# EAGLE library part 7SEG-1 (library IBe-9102-lib)
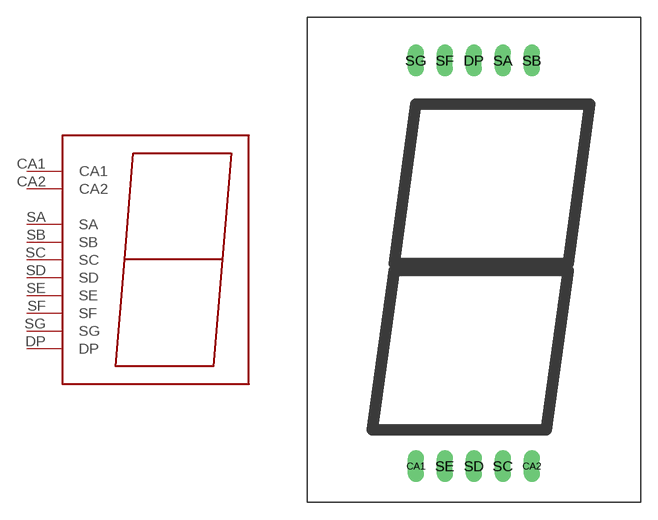
[diagram p12: symbol with the pads of 7SEG-1; footprint 7SEG-1]

Designator prefix -

## 7SEG-1  [7SEG-1]
CA1  CA1
CA2  CA2
DP  DP
SA  SA
SB  SB
SC  SC
SD  SD
SE  SE
SF  SF
SG  SG

## Footprint 7SEG-1 (pad centres in mm)
drill 0.85 pad 1.422 long: CA1 -3.81,-10.16; CA2 6.35,-10.16; DP 1.27,25.4; SA 3.81,25.4; SB 6.35,25.4; SC 3.81,-10.16; SD 1.27,-10.16; SE -1.27,-10.16; SF -1.27,25.4; SG -3.81,25.4